# Altium footprint library XL6001E1.PcbLib: 9 footprints
Each footprint in its own frame and in the unit in brackets; x right, y up, seen from the top. Pads: shape width x height; smd on the part's side, far side on the other; paste and mask are expansions set on the pad; w line width, h text height; cw(c..) or ccw(c..) is an arc to the next point about the centre after c.
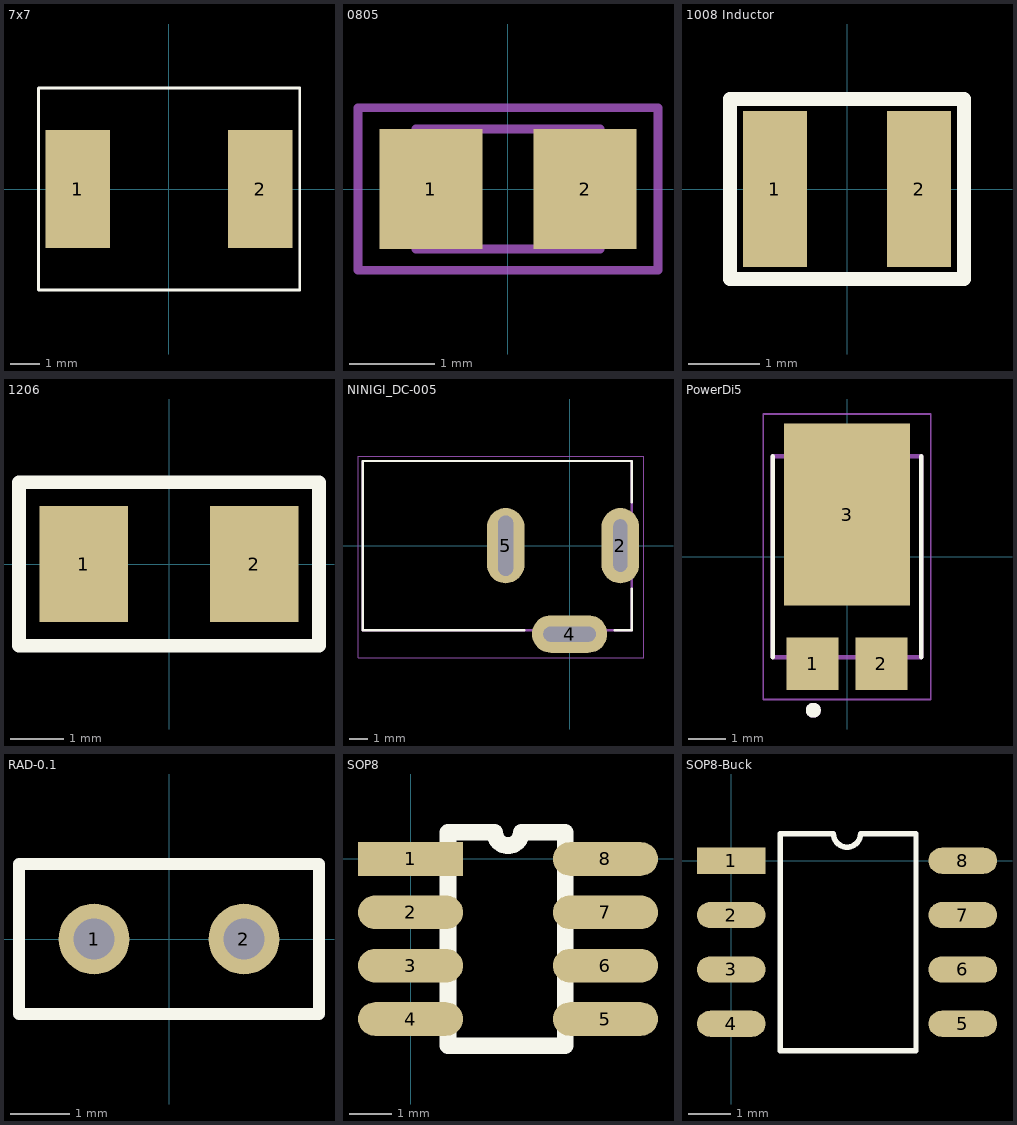
[diagram p0: the footprints below, top view; thin cyan lines are the x and y axes]

## 7x7 [mm]
pads (2):
  rect 2.2x4 smd: 1(-3.1,0) 2(3.1,0)
Top Overlay:
  lines w0.1: -4.438,-3.429 4.445,-3.429 4.445,3.429 -4.438,3.429 -4.438,1.434 -4.438,-0.494 -4.438,-3.429

## 0805 [mm] "Chip Resistor, Body 2.0x1.2mm, IPC Medium Density"
height 0.7
pads (2):
  rect 1.2x1.4 smd: 1(-0.9,0) 2(0.9,0)
Mechanical 13:
  lines w0.1: -1.075,-0.7 1.075,-0.7 1.075,0.7 -1.075,0.7 -1.075,-0.7
Mechanical 15:
  lines w0.1: -1.75,-0.95 1.75,-0.95 1.75,0.95 -1.75,0.95 -1.75,-0.95
3D body: height 0.7, standoff 0, extent -1.075,-0.7 1.075,0.7

## 1008 Inductor [mm]
pads (2):
  rect 0.9x2.2 smd: 1(-1.016,0) 2(1.016,0)
Top Overlay:
  lines w0.2: -1.651,-1.27 1.651,-1.27 1.651,1.27 -1.651,1.27 -1.651,0.351 -1.651,-1.27

## 1206 [mil]
pads (2):
  rect 65x85 smd: 1(-62.5,0) 2(62.5,0)
Top Overlay:
  lines w10: -110,-60 110,-60 110,60 -110,60 -110,12.5 -110,-60

## NINIGI_DC-005 [mm]
pads (3):
  oval 2x4 hole 0.75 slot 2.794 at 90 deg: 2(2.7,0)
  oval 4x2 hole 0.8 slot 2.794 at 0 deg: 4(0,-4.7)
  oval 2x4 hole 0.801 slot 3.2 at 90 deg: 5(-3.4,0)
Top Overlay:
  lines w0.127: -2.4,-4.5 -11,-4.5 -11,4.5 3.3,4.5 3.3,2.3 ; 2.4,-4.5 3.3,-4.5 3.3,-2.3
Mechanical 1:
  lines w0: -3.775,-1.5 -3.025,-1.5 -3.025,1.5 -3.775,1.5 -3.775,-1.5 ; -1.25,-5.1 1.25,-5.1 1.25,-4.3 -1.25,-4.3 -1.25,-5.1 ; 2.325,-1.5 3.075,-1.5 3.075,1.5 2.325,1.5 2.325,-1.5
Mechanical 4:
  lines w0.127: -11,-4.5 3.3,-4.5 ; -11,-4.5 -11,4.5 ; -11,-4.5 3.3,-4.5 ; -11,-4.5 -11,4.5 ; -11,4.5 3.3,4.5 ; -11,4.5 3.3,4.5 ; 3.3,-4.5 3.3,4.5 ; 3.3,-4.5 3.3,4.5
Mechanical 16:
  lines w0.05: -11.25,-5.95 3.95,-5.95 3.95,4.75 -11.25,4.75 -11.25,-5.95

## PowerDi5 [mm]
pads (3):
  rect 1.39x1.4 smd: 1(-0.92,-2.856) 2(0.92,-2.856)
  rect 3.36x4.86 smd: 3(0,1.126)
Top Overlay:
  circle w0.2: c-0.9,-4.1 r0.1
  lines w0.127: -1.985,-2.685 -1.985,2.685 ; 1.985,-2.685 1.985,2.685
Top Paste:
  region: -1.06,2.666 1.06,2.666 1.06,-0.414 -1.06,-0.414
Mechanical 4:
  circle w0.2: c-0.9,-4.1 r0.1
  circle w0.2: c-0.9,-4.1 r0.1
  lines w0.127: -1.985,-2.685 -1.985,2.685 ; -1.985,-2.685 1.985,-2.685 ; -1.985,-2.685 -1.985,2.685 ; -1.985,-2.685 1.985,-2.685 ; -1.985,2.685 1.985,2.685 ; -1.985,2.685 1.985,2.685 ; 1.985,-2.685 1.985,2.685 ; 1.985,-2.685 1.985,2.685
Mechanical 16:
  lines w0.05: -2.235,-3.81 2.235,-3.81 2.235,3.81 -2.235,3.81 -2.235,-3.81

## RAD-0.1 [mm] "Radial Cap, Thru-Hole; 2 Leads; 0.1 in Pin Spacing"
pads (2):
  round 1.2 hole 0.7: 1(-1.27,0) 2(1.27,0)
Top Overlay:
  lines w0.2: -2.54,-1.27 2.54,-1.27 2.54,1.27 -2.54,1.27 -2.54,-1.27

## SOP8 [mm]
pads (8):
  rect 2.5x0.8 smd: 1(0,0)
  oval 2.5x0.8 smd: 2(0,-1.27) 3(0,-2.54) 4(0,-3.81) 5(4.64,-3.81) 6(4.64,-2.54) 7(4.64,-1.27) 8(4.64,0)
Top Overlay:
  lines w0.4: 0.889,-4.445 0.889,0.635 2.003,0.635 ccw(c2.32,0.635) 2.638,0.635 3.683,0.635 3.683,-4.445 0.889,-4.445

## SOP8-Buck [mil]
pads (8):
  rect 63x24 smd: 1(0,0)
  oval 63x24 smd: 2(0,-50) 3(0,-100) 4(0,-150) 5(213,-150) 6(213,-100) 7(213,-50) 8(213,0)
Top Overlay:
  lines w5: 45,-175 170,-175 170,25 119,25 cw(c106.5,25) 94,25 45,25 45,-175